# Altium schematic symbol library Freezer_Power.SCHLIB: 78 symbols
Pins are listed as number, name and electrical type; pins without a type are passive.

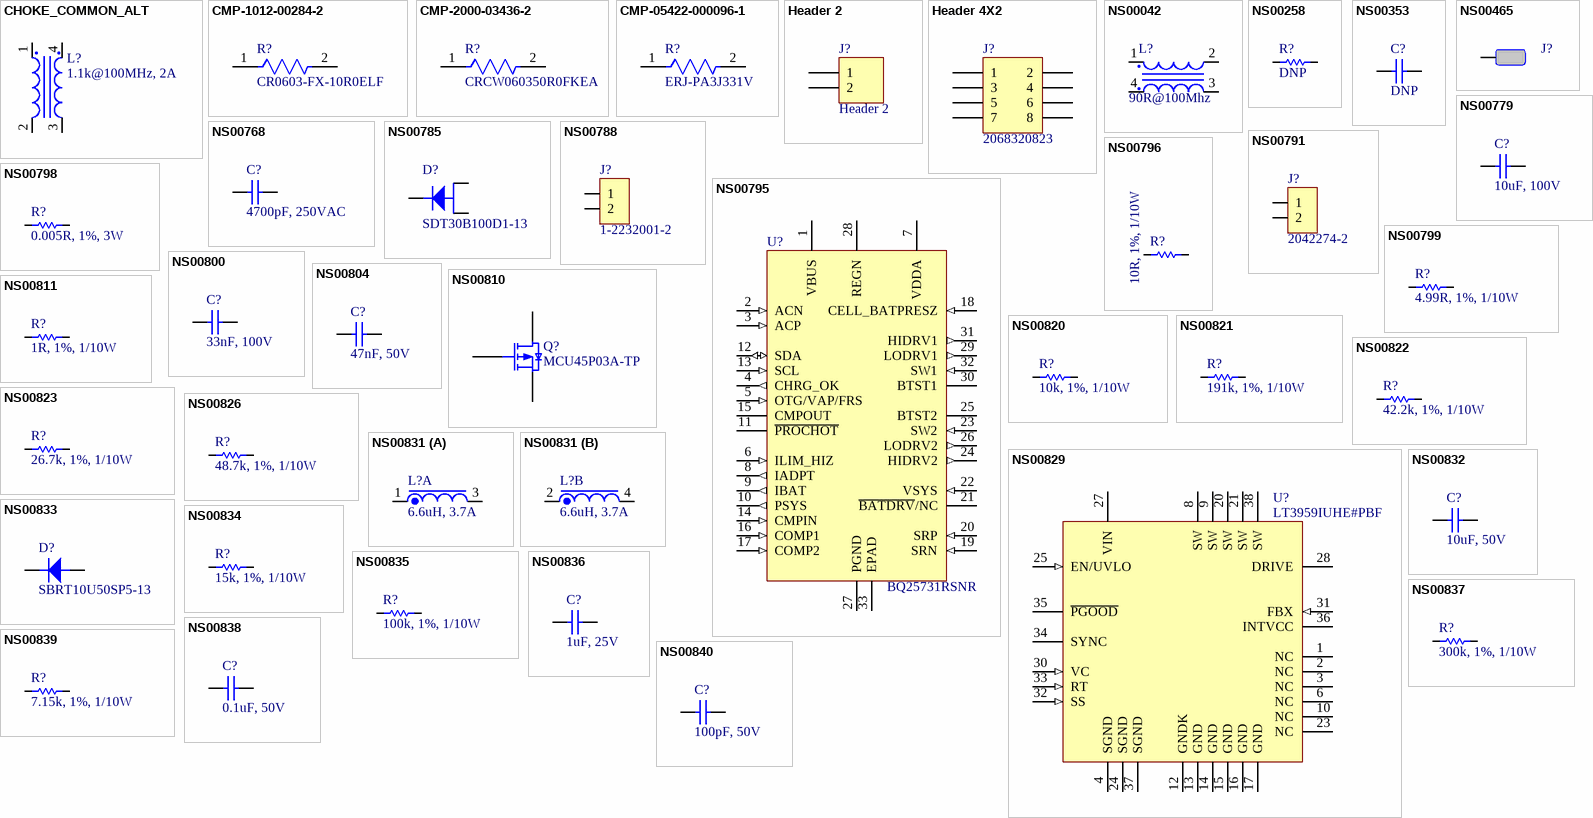
[diagram p0: symbols CHOKE_COMMON_ALT to NS00840]

## CHOKE_COMMON_ALT
designator L?, comment 1.1k@100MHz, 2A
CMC 2A 2LN 1.1K OHM SMD; Part Number: NS00952; Type: Inductor; Value: 1.1k@100MHz, 2A; ComponentLink1Description: Datasheet; ComponentLink1URL: H:\Doc\Murata\EFLC0026.pdf; Supplier 1: Digi-Key; Supplier Part Number 1: 490-12641-1-ND
footprint PLCC440P435X370X235-4L
pins: 1, 2, 3, 4

## CMP-1012-00284-2
designator R?, comment CR0603-FX-10R0ELF
Thick Film Chip Resistors 0603 10Ω 0.1W 1% 100ppm/°C; Manufacturer: Bourns; Manufacturer: Vishay; Manufacturer Part Number: CRCW060310R0FKEA; Manufacturer: Yageo; Manufacturer Part Number: RC0603FR-0710RL; Manufacturer: Panasonic; Manufacturer Part Number: ERJ-3EKF10R0V; Manufacturer: Vishay Dale; Manufacturer Part Number: CRCW060310R0FKEB; Manufacturer Part Number: CRCW060310R0FKTB; Manufacturer Part Number: CRCW060310R0FKEC; Manufacturer Part Number: CRCW0603-10R0FKTA; Max Power Dissipation: 100mW; Resistance: 10R; Voltage Rating: 50V; Depth: 0.8mm; REACH SVHC: No SVHC; Package Quantity: 1; Thickness: 457um; Length: 1.6mm; Tolerance: 1%; Width: 0.8mm; Number of Pins: 2; Height: 0.45mm; Military Standard: Not; Features: Moisture Resistant; Packaging: Tape and Reel; Case/Package: 0603; Power Rating: 100mW; Voltage Rating (DC): 50V; Radiation Hardening: No; Mount: Surface Mount; Min Operating Temperature: -55°C; Composition: Thick Film; Max Operating Temperature: 155°C; Termination: SMD/SMT; Temperature Coefficient: 100ppm/°C; Case Code (Imperial): 0603; Case Code (Metric): 1608; Number of Terminations: 2; Contact Plating: Tin; Manufacturer Part Number: CR0603-FX-10R0ELF
footprint FP-CR0603-IPC_C
footprint FP-CR0603-IPC_A
footprint FP-CR0603-IPC_B
footprint FP-CR0603-MFG
pins: 1, 2

## CMP-2000-03436-2
designator R?, comment CRCW060350R0FKEA
RES Thick Film, 50Ω, 1%, 0.1W, 100ppm/°C, 0603; Manufacturer: Vishay Dale; Voltage Rating (DC): 75V; Resistance: 50R; Power Rating: 100mW; Case/Package: 0603; Packaging: Tape and Reel; Military Standard: Not; REACH SVHC: No SVHC; Width: 0.85mm; Max Operating Temperature: 155°C; Case Code (Metric): 1608; Temperature Coefficient: 100ppm/°C; Lead Free: Lead Free; Height: 0.45mm; Composition: Thick Film; Termination: SMD/SMT; Contact Plating: Tin; Number of Pins: 2; Tolerance: 1%; Depth: 0.85mm; Weight: 7.1E-05oz; Min Operating Temperature: -55°C; Length: 1.55mm; Radiation Hardening: No; Voltage Rating: 75V; Case Code (Imperial): 0603; Package Quantity: 5000; Mount: Surface Mount; Manufacturer Part Number: CRCW060350R0FKEA
footprint FP-CRCW0603-e3-MFG
footprint FP-CRCW0603-e3-IPC_C
footprint FP-CRCW0603-e3-IPC_A
footprint FP-CRCW0603-e3-IPC_B
pins: 1, 2

## CMP-05422-000096-1
designator R?, comment ERJ-PA3J331V
RES SMD 330 OHM 5% 1/4W 0603; Manufacturer: Panasonic; Resistance: 330R; Temperature Coefficient: 200ppm/°C; Max Power Dissipation: 250mW; Case Code (Imperial): 0603; Height: 0.018inch; Case/Package: 0603; Case Code (Metric): 1608; Width: 0.031inch; Length: 0.063inch; Tolerance: 5%; Features: Automotive AEC-Q200; Min Operating Temperature: -55°C; Max Operating Temperature: 155°C; Resistor Type: Thick Film; Packaging: Cut Tape; Number of Terminations: 2; Manufacturer Part Number: ERJ-PA3J331V
footprint FP-ERJPA3-MFG
footprint FP-ERJPA3-IPC_C
footprint FP-ERJPA3-IPC_B
footprint FP-ERJPA3-IPC_A
pins: 1, 2

## Header 2
designator J?
Header, 2-Pin; LatestRevisionDate: 17-Jul-2002; LatestRevisionNote: Re-released for DXP Platform.; Publisher: Altium Limited; Supplier 1: Digi-Key; Supplier Part Number 1: 455-B2B-XH-A-ND
footprint HDR1X2 (Connector; Header; 2 Position)
signal-integrity model Connector
footprint CONN-TH_2P-P2.50_HX25003-2A
pins: 1, 2

## Header 4X2
designator J?, comment 2068320823
Header, 4-Pin, Dual row; LatestRevisionDate: 17-Jul-2002; LatestRevisionNote: Re-released for DXP Platform.; Publisher: Altium Limited; Supplier 1: Digi-Key; Supplier Part Number 1: 900-2068320823-ND
footprint HDR2X4 (Connector; Header; 4x2 Position)
signal-integrity model Connector
footprint CONN_206832-0823
pins: 1, 2, 3, 4, 5, 6, 7, 8

## NS00042
designator L?, comment 90R@100Mhz
INDUCTOR COMMON MODE 90 OHM 25%; Part Number: NS00042; Type: Inductor; Value: 90R@100Mhz; ComponentLink1Description: Datasheet; ComponentLink1URL: H:\Doc\Bourns\SRF2012A.pdf; Supplier 1: Digi-Key; Supplier Part Number 1: SRF2012-900YATR-ND
footprint BOURNS_SRF2012
pins: 1, 2, 3, 4

## NS00258
designator R?, comment DNP
RES SMD 0.0 OHM JUMPER 1/2W 0805; Part Number: NS00258; Value: 0R; Type: R; Supplier 1: Digi-Key; Supplier Part Number 1: 36-5106CT-ND
footprint 0805
pins: 1, 2

## NS00353
designator C?, comment DNP
0.10µF ±10% 50V Ceramic Capacitor X7R 0805 (2012 Metric); Part Number: NS00353; Type: C; Value: 0.1uF, 50V; Alternatives: Generic; Supplier 1: Digi-Key; Supplier Part Number 1: 478-1395-1-ND
footprint 0805
pins: 1, 2

## NS00465
designator J?, comment 1.5x3.5  (value not drawn)  (no BOM)
PAD SOLDER 1.5x3.5MM; Part Number: NS00465; Type: Mechanical; Value: 1.5x3.5
footprint PAD_15_35
pins: 1

## NS00768
designator C?, comment 4700pF, 250VAC
CAP CER 4700PF 250VAC X7R 2220; Part Number: NS00768; Type: C; Alternatives: Generic; Value: 4700pF, 250VAC; Supplier 1: Digi-Key; Supplier Part Number 1: 2873-SCC2220X472K502TGCT-ND
footprint 2220-2.5_CAP
pins: 1, 2

## NS00779
designator C?, comment 10uF, 100V
MLCC 10UF 100V X7S 1210; Part Number: NS00779; Type: C; Alternatives: Generic; Value: 10uF, 100V; Supplier 1: Digi-Key; Supplier Part Number 1: 1276-CL32Y106KCVZNWECT-ND
footprint 1210
pins: 1, 2

## NS00785
designator D?, comment SDT30B100D1-13
DIODE SCHOTTKY 100V 30A TO252; Part Number: NS00785; Type: Diode; Value: SDT30B100D1-13; ComponentLink1Description: Datasheet; ComponentLink1URL: H:\Doc\Diodes\SDT30B100D1.pdf; Supplier 1: Digi-Key; Supplier Part Number 1: SDT30B100D1-13DICT-ND
footprint DPAK
pins: 1 A, 2 K, 3 A

## NS00788
designator J?, comment 1-2232001-2
CONN HEADER VERT 2POS 5MM; Part Number: NS00788; Type: Connector; Value: 1-2232001-2; ComponentLink1Description: Datasheet; ComponentLink1URL: H:\Doc\Tyco\ENG_CD_1971845_B1.pdf; Supplier 1: Digi-Key; Supplier Part Number 1: A117216-ND
footprint CONN_TE_1-2232001-2
pins: 1, 2

## NS00791
designator J?, comment 2042274-2
CONN HEADER 2POS PCB; Part Number: NS00791; Type: Connector; Value: 2042274-2; ComponentLink1Description: Datasheet; ComponentLink1URL: H:\Doc\Tyco\ENG_SS_108-19346_H1.pdf; ComponentLink2Description: Drawing; ComponentLink2URL: H:\Doc\Tyco\ENG_CD_2042274_D.pdf; ComponentLink3Description: Application Specification; ComponentLink3URL: H:\Doc\Tyco\ENG_SS_114-19110_C.pdf; Supplier 1: Digi-Key; Supplier Part Number 1: A105511CT-ND
footprint CONN_TE_2042274-2
pins: 1, 2

## NS00795
designator U?, comment BQ25731RSNR
I2C 1-5 CELL NVDC BUCK-BOOST BAT; Part Number: NS00795; Type: IC; Value: BQ25731RSNR; ComponentLink1Description: Datasheet; ComponentLink1URL: H:\Doc\TI\bq25731.pdf; ComponentLink2Description: Application Notes; ComponentLink2URL: H:\Doc\TI\sluucb9a.pdf; Supplier 1: Digi-Key; Supplier Part Number 1: 296-BQ25731RSNRCT-ND
footprint QFN40P400X400X80_HS-33L
pins: 1 VBUS (power), 2 ACN (in), 3 ACP (in), 4 CHRG_OK (out), 5 OTG/VAP/FRS (in), 6 ILIM_HIZ (in), 7 VDDA (power), 8 IADPT (out), 9 IBAT (out), 10 PSYS (out), 11 ~{PROCHOT} (oc), 12 SDA (io), 13 SCL (in), 14 CMPIN (in), 15 CMPOUT (oc), 16 COMP1 (in), 17 COMP2 (in), 18 CELL_BATPRESZ (in), 19 SRN (in), 20 SRP (in), 21 ~{BATDRV}/NC (oc), 22 VSYS (in), 23 SW2 (in), 24 HIDRV2 (out), 25 BTST2 (power), 26 LODRV2 (out), 27 PGND (power), 28 REGN (power), 29 LODRV1 (out), 30 BTST1 (power), 31 HIDRV1 (out), 32 SW1 (in), 33 EPAD (power)

## NS00796
designator R?, comment 10R, 1%, 1/10W
RES 10 OHM 1% 1/10W 0603; Part Number: NS00796; Alternatives: Generic; Type: R; Value: 10R, 1%, 1/10W; Supplier 1: Digi-Key; Supplier Part Number 1: 1292-WR06X10R0FTLCT-ND
footprint 0603
pins: 1, 2

## NS00798
designator R?, comment 0.005R, 1%, 3W
RES 0.005 OHM 1% 3W 2512; Part Number: NS00798; Alternatives: Generic; Type: R; Value: 0.005R, 1%, 3W; Supplier 1: Digi-Key; Supplier Part Number 1: CRE2512-FZ-R005E-3CT-ND
footprint 2512_RES_1
pins: 1, 2

## NS00799
designator R?, comment 4.99R, 1%, 1/10W
RES 4.99 OHM 1% 1/10W 0603; Part Number: NS00799; Alternatives: Generic; Type: R; Value: 4.99R, 1%, 1/10W; Supplier 1: Digi-Key; Supplier Part Number 1: RMCF0603FT4R99CT-ND
footprint 0603
pins: 1, 2

## NS00800
designator C?, comment 33nF, 100V
CAP CER 0.033UF 100V C0G 0805; Part Number: NS00800; Type: C; Alternatives: Generic; Value: 33nF, 100V; Supplier 1: Digi-Key; Supplier Part Number 1: 445-172691-1-ND
footprint 0805_CAP
pins: 1, 2

## NS00804
designator C?, comment 47nF, 50V
CAP CER 0.047UF 50V X7R 0603; Part Number: NS00804; Type: C; Alternatives: Generic; Value: 47nF, 50V; Supplier 1: Digi-Key; Supplier Part Number 1: 1276-1063-1-ND
footprint 0603
pins: 1, 2

## NS00810
designator Q?, comment MCU45P03A-TP
P-CHANNEL MOSFET, DPAK; Part Number: NS00810; Type: IC; Value: MCU45P03A-TP; ComponentLink1Description: Datasheet; ComponentLink1URL: H:\Doc\MicroCommercial\MCU45P03A(DPAK).pdf; Supplier 1: Digi-Key; Supplier Part Number 1: 353-MCU45P03A-TPCT-ND
footprint DPAK
pins: 1 G, 2 D, 3 S

## NS00811
designator R?, comment 1R, 1%, 1/10W
RES 1 OHM 1% 1/10W 0603; Part Number: NS00811; Alternatives: Generic; Type: R; Value: 1R, 1%, 1/10W; Supplier 1: Digi-Key; Supplier Part Number 1: RMCF0603FT1R00CT-ND
footprint 0603
pins: 1, 2

## NS00820
designator R?, comment 10k, 1%, 1/10W
RES 10K OHM 1% 1/10W 0603; Part Number: NS00820; Alternatives: Generic; Type: R; Value: 10k, 1%, 1/10W; Supplier 1: Digi-Key; Supplier Part Number 1: RMCF0603FT10K0CT-ND
footprint 0603
pins: 1, 2

## NS00821
designator R?, comment 191k, 1%, 1/10W
RES 191K OHM 1% 1/10W 0603; Part Number: NS00821; Alternatives: Generic; Type: R; Value: 191k, 1%, 1/10W; Supplier 1: Digi-Key; Supplier Part Number 1: RMCF0603FT191KCT-ND
footprint 0603
pins: 1, 2

## NS00822
designator R?, comment 42.2k, 1%, 1/10W
RES 42.2K OHM 1% 1/10W 0603; Part Number: NS00822; Alternatives: Generic; Type: R; Value: 42.2k, 1%, 1/10W; Supplier 1: Digi-Key; Supplier Part Number 1: RMCF0603FT42K2
footprint 0603
pins: 1, 2

## NS00823
designator R?, comment 26.7k, 1%, 1/10W
RES 26.7K OHM 1% 1/10W 0603; Part Number: NS00823; Alternatives: Generic; Type: R; Value: 26.7k, 1%, 1/10W; Supplier 1: Digi-Key; Supplier Part Number 1: RMCF0603FT26K7
footprint 0603
pins: 1, 2

## NS00826
designator R?, comment 48.7k, 1%, 1/10W
RES 48.7K OHM 1% 1/10W 0603; Part Number: NS00826; Alternatives: Generic; Type: R; Value: 48.7k, 1%, 1/10W; Supplier 1: Digi-Key; Supplier Part Number 1: RMCF0603FT48K7CT-ND
footprint 0603
pins: 1, 2

## NS00829
designator U?, comment LT3959IUHE#PBF
IC REG MULTI CONFG ADJ 6A 36QFN; Part Number: NS00829; Type: IC; Value: LT3959IUHE#PBF; ComponentLink1Description: Datasheet; ComponentLink1URL: H:\Doc\Linear_Technologies\3959fa.pdf; Supplier 1: Digi-Key; Supplier Part Number 1: 505-LT3959IUHE#PBF-ND
footprint QFN50P500X600X80_LT_UHEMA
pins: 1 NC, 2 NC, 3 NC, 4 SGND (power), 6 NC, 8 SW (oc), 9 SW (oc), 10 NC, 12 GNDK (power), 13 GND (power), 14 GND (power), 15 GND (power), 16 GND (power), 17 GND (power), 20 SW (oc), 21 SW (oc), 23 NC, 24 SGND (power), 25 EN/UVLO (in), 27 VIN (power), 28 DRIVE (power), 30 VC (in), 31 FBX (in), 32 SS (in), 33 RT (in), 34 SYNC (power), 35 ~{PGOOD} (oc), 36 INTVCC (power), 37 SGND (power), 38 SW (oc)

## NS00831
designator L?, comment 6.6uH, 3.7A
INDUCT ARRAY 2 COIL 6.6UH SMD; Part Number: NS00831; Type: Inductor; Value: 6.6uH, 3.7A; ComponentLink1Description: Datasheet; ComponentLink1URL: H:\Doc\pulse\SPM2007_28.pdf; Supplier 1: Digi-Key; Supplier Part Number 1: 553-3631-ND
footprint PLCC300P1250X1250X600-4N
part A pins: 1, 3 2
part B pins: 2 3, 4

## NS00832
designator C?, comment 10uF, 50V
CAP CER 10UF 50V X7R 1206; Part Number: NS00832; Type: C; Alternatives: Generic; Value: 10uF, 50V; Supplier 1: Digi-Key; Supplier Part Number 1: 1276-6767-1-ND
footprint 1206
pins: 1, 2

## NS00833
designator D?, comment SBRT10U50SP5-13
DIODE SBR 50V 10A POWERDI5; Part Number: NS00833; Type: Diode; Value: SBRT10U50SP5-13; ComponentLink1Description: Datasheet; ComponentLink1URL: H:\Doc\Diodes\SBRT10U50SP5.pdf; Supplier 1: Digi-Key; Supplier Part Number 1: SBR10E45P5-7DICT-ND
footprint DPAK184P650X115-3L
pins: 1 A, 2 K

## NS00834
designator R?, comment 15k, 1%, 1/10W
RES 15K OHM 1% 1/10W 0603; Part Number: NS00834; Alternatives: Generic; Type: R; Value: 15k, 1%, 1/10W; Supplier 1: Digi-Key; Supplier Part Number 1: 1292-WR06X1502FTLCT-ND
footprint 0603
pins: 1, 2

## NS00835
designator R?, comment 100k, 1%, 1/10W
RES 100K OHM 1% 1/10W 0603; Part Number: NS00835; Alternatives: Generic; Type: R; Value: 100k, 1%, 1/10W; Supplier 1: Digi-Key; Supplier Part Number 1: RMCF0603FT100KCT-ND
footprint 0603
pins: 1, 2

## NS00836
designator C?, comment 1uF, 25V
CAP CER 1UF 25V X7R 0603; Part Number: NS00836; Type: C; Alternatives: Generic; Value: 1uF, 25V; Supplier 1: Digi-Key; Supplier Part Number 1: 1276-1184-1-ND
footprint 0603
pins: 1, 2

## NS00837
designator R?, comment 300k, 1%, 1/10W
RES 300K OHM 1% 1/10W 0603; Part Number: NS00837; Alternatives: Generic; Type: R; Value: 300k, 1%, 1/10W; Supplier 1: Digi-Key; Supplier Part Number 1: RMCF0603FT300KCT-ND
footprint 0603
pins: 1, 2

## NS00838
designator C?, comment 0.1uF, 50V
CAP CER 0.1UF 50V X7R 0603; Part Number: NS00838; Type: C; Alternatives: Generic; Value: 0.1uF, 50V; Supplier 1: Digi-Key; Supplier Part Number 1: 1276-1935-1-ND
footprint 0603
pins: 1, 2

## NS00839
designator R?, comment 7.15k, 1%, 1/10W
RES 7.15K OHM 1% 1/10W 0603; Part Number: NS00839; Alternatives: Generic; Type: R; Value: 7.15k, 1%, 1/10W; Supplier 1: Digi-Key; Supplier Part Number 1: RMCF0603FT7K15CT-ND
footprint 0603
pins: 1, 2

## NS00840
designator C?, comment 100pF, 50V
CAP CER 100PF 50V C0G/NP0 0603; Part Number: NS00840; Type: C; Alternatives: Generic; Value: 100pF, 50V; Supplier 1: Digi-Key; Supplier Part Number 1: 478-1175-1-ND
footprint 0603
pins: 1, 2

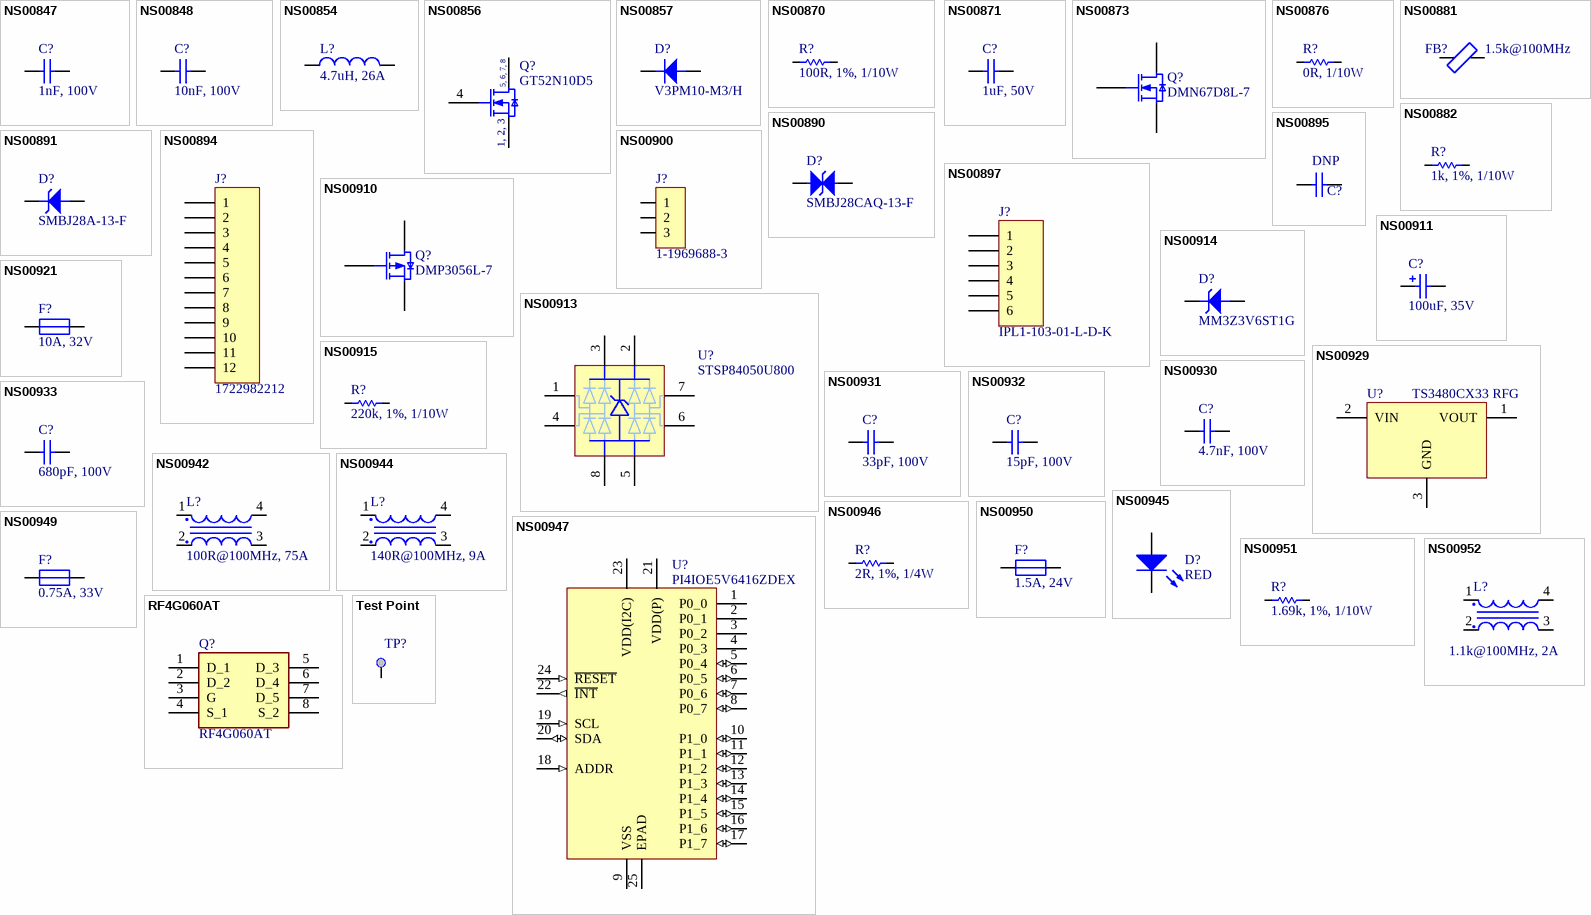
[diagram p1: symbols NS00847 to Test Point]

## NS00847
designator C?, comment 1nF, 100V
CAP CER 1000PF 100V C0G/NP0 0603; Part Number: NS00847; Type: C; Alternatives: Generic; Value: 1nF, 100V; Supplier 1: Digi-Key; Supplier Part Number 1: 732-12187-1-ND
footprint 0603
pins: 1, 2

## NS00848
designator C?, comment 10nF, 100V
CAP CER 10000PF 100V C0G 0603; Part Number: NS00848; Type: C; Alternatives: Generic; Value: 10nF, 100V; Supplier 1: Digi-Key; Supplier Part Number 1: 445-172665-1-ND
footprint 0603
pins: 1, 2

## NS00854
designator L?, comment 4.7uH, 26A
FIXED IND 4.7UH 26A 5.5 MOHM SMD; Part Number: NS00854; Type: Inductor; Value: 4.7uH, 26A; ComponentLink1Description: Datasheet; ComponentLink1URL: H:\Doc\Bourns\srp1770c.pdf; Supplier 1: Digi-Key; Supplier Part Number 1: SRP1770C-4R7MCT-ND
footprint INDM178169X70N
pins: 1, 2

## NS00856
designator Q?, comment GT52N10D5
N-CH MOSFET 100V 71A 8-PowerTDFN; Part Number: NS00856; Type: IC; Published: 8-Jun-2000; LatestRevisionDate: 17-Jul-2002; LatestRevisionNote: Re-released for DXP Platform.; PackageVersion: 1995/1996; PackageReference: E3; Publisher: Altium Limited; Value: GT52N10D5; ComponentLink1Description: Datasheet; ComponentLink1URL: H:\Doc\Goford\GOFORD GT52N10D5.pdf; Supplier 1: Digi-Key; Supplier Part Number 1: 3141-GT52N10D5CT-ND
footprint 8-PowerSMD
pins: 1 S1, 2 S2, 3 S3, 4 G, 5 D1, 6 D2, 7 D3, 8 D4
text: 5, 6, 7, 8; 1, 2, 3

## NS00857
designator D?, comment V3PM10-M3/H
SCHOTTKY RECTIFIER 3A 100V SMP; Part Number: NS00857; Type: Diode; Value: V3PM10-M3/H; ComponentLink1Description: Datasheet; ComponentLink1URL: H:\Doc\Vishay\v3pm10.pdf; Supplier 1: Digi-Key; Supplier Part Number 1: 112-V3PM10-M3/HCT-ND
footprint SMP
pins: 1 A, 2 K

## NS00870
designator R?, comment 100R, 1%, 1/10W
RES 100 OHM 1% 1/10W 0603; Part Number: NS00870; Alternatives: Generic; Type: R; Value: 100R, 1%, 1/10W; Supplier 1: Digi-Key; Supplier Part Number 1: RMCF0603FT100RCT-ND
footprint 0603
pins: 1, 2

## NS00871
designator C?, comment 1uF, 50V
CAP CER 1UF 50V X7R 0805; Part Number: NS00871; Type: C; Alternatives: Generic; Value: 1uF, 50V; Supplier 1: Digi-Key; Supplier Part Number 1: 1276-6470-1-ND
footprint 0805
pins: 1, 2

## NS00873
designator Q?, comment DMN67D8L-7
MOSFET N-CH 60V 210MA SOT23; Part Number: NS00873; Type: IC; Published: 8-Jun-2000; LatestRevisionDate: 17-Jul-2002; LatestRevisionNote: Re-released for DXP Platform.; PackageVersion: 1995/1996; PackageReference: E3; Publisher: Altium Limited; Value: DMN67D8L-7; ComponentLink1Description: Datasheet; ComponentLink1URL: H:\Doc\Diodes\DMN67D8L.pdf; Supplier 1: Digi-Key; Supplier Part Number 1: DMN67D8L-7DICT-ND
footprint SOT23-3
pins: 1 G, 2 S, 3 D

## NS00876
designator R?, comment 0R, 1/10W
RES 0 OHM JUMPER 1/10W 0603; Part Number: NS00876; Alternatives: Generic; Type: R; Value: 0R, 1/10W; Supplier 1: Digi-Key; Supplier Part Number 1: RMCF0603ZT0R00CT-ND
footprint 0603
pins: 1, 2

## NS00881
designator FB?, comment 1.5k@100MHz
WE-CBA SMT EMI SUPPRESSION FERRITE; Part Number: NS00881; Type: Inductor; Value: 1.5k@100MHz; ComponentLink1Description: Datasheet; ComponentLink1URL: H:\Doc\Wurth\782853162.pdf; Supplier 1: Digi-Key; Supplier Part Number 1: 732-782853162CT-ND
footprint 0805
pins: 1, 2

## NS00882
designator R?, comment 1k, 1%, 1/10W
RES 1K OHM 1% 1/10W 0603; Part Number: NS00882; Alternatives: Generic; Type: R; Value: 1k, 1%, 1/10W; Supplier 1: Digi-Key; Supplier Part Number 1: RMCF0603FT1K00CT-ND
footprint 0603
pins: 1, 2

## NS00890
designator D?, comment SMBJ28CAQ-13-F
TVS DIODE 28VWM 45.4VC SMB; Part Number: NS00890; Type: Diode; Value: SMBJ28CAQ-13-F; ComponentLink1Description: Datasheet; ComponentLink1URL: H:\Doc\Diodes\SMBJ6.5CAQ-SMBJ100CAQ.pdf; Supplier 1: Digi-Key; Supplier Part Number 1: SMBJ28CAQ-13-FDICT-ND
footprint SMB
pins: 1 A, 2 K

## NS00891
designator D?, comment SMBJ28A-13-F
TVS DIODE 28VWM 45.4VC SMB; Part Number: NS00891; Type: Diode; Value: SMBJ28A-13-F; ComponentLink1Description: Datasheet; ComponentLink1URL: H:\Doc\Diodes\ds19002-2.pdf; Supplier 1: Digi-Key; Supplier Part Number 1: SMBJ28A-FDICT-ND
footprint SMB
pins: 1 A, 2 K

## NS00894
designator J?, comment 1722982212
CONN HEADER VERT 12POS 3.5MM; Part Number: NS00894; Type: Connector; Value: 1722982212; ComponentLink1Description: Datasheet; ComponentLink1URL: H:\Doc\Molex\1722982212_PCB_HEADERS.pdf; ComponentLink2Description: Application Specification; ComponentLink2URL: H:\Doc\Molex\AS-172323-0001-001.pdf; ComponentLink3Description: Drawing; ComponentLink3URL: H:\Doc\Molex\1722982212_sd.pdf; Supplier 1: Digi-Key; Supplier Part Number 1: WM11767-ND
footprint CONN_MOLEX_1722982212
pins: 1, 2, 3, 4, 5, 6, 7, 8, 9, 10, 11, 12

## NS00895
designator C?, comment DNP
CAP CER 0.068UF 50V X7R 0603; Part Number: NS00895; Type: C; Value: 68nF, 50V; Alternatives: Generic; Supplier 1: Digi-Key; Supplier Part Number 1: 1276-6541-1-ND
footprint 0603
pins: 1, 2

## NS00897
designator J?, comment IPL1-103-01-L-D-K
CONN HEADER VERT 6POS 2.54MM; Part Number: NS00897; Type: Connector; Value: IPL1-103-01-L-D-K; ComponentLink1Description: Datasheet; ComponentLink1URL: H:\Doc\Samtec\100_mini_mate.pdf; ComponentLink2Description: Dimensions; ComponentLink2URL: H:\Doc\Samtec\ipl1.pdf; Supplier 1: Digi-Key; Supplier Part Number 1: SAM9594-ND
footprint CONN_SAMTEC_IPL1-103-XX-X-D
pins: 1, 2, 3, 4, 5, 6

## NS00900
designator J?, comment 1-1969688-3
CONN HEADER VERT 3POS 6MM; Part Number: NS00900; Type: Connector; Value: 1-1969688-3; ComponentLink1Description: Product Spec; ComponentLink1URL: H:\Doc\Tyco\ENG_SS_108-32090_E.pdf; ComponentLink2Description: Application Spec; ComponentLink2URL: H:\Doc\Tyco\ENG_SS_114-32136_D.pdf; ComponentLink3Description: Drawing; ComponentLink3URL: H:\Doc\Tyco\ENG_CD_1969688_C.pdf; Supplier 1: Digi-Key; Supplier Part Number 1: A120938-ND
footprint CONN_TE_1-1969688-3
pins: 1, 2, 3

## NS00910
designator Q?, comment DMP3056L-7
MOSFET P-CH 30V 4.3A SOT23; Part Number: NS00910; Type: IC; Value: DMP3056L-7; ComponentLink1Description: Datasheet; ComponentLink1URL: H:\Doc\Diodes\DMP3056L.pdf; Supplier 1: Digi-Key; Supplier Part Number 1: DMP3056L-7DICT-ND
footprint SOT23-3
pins: 1 G, 2 S, 3 D

## NS00911
designator C?, comment 100uF, 35V
CAP ALUM 100UF 20% 35V SMD; Part Number: NS00911; Type: C; Alternatives: Generic; Value: 100uF, 35V; Supplier 1: Digi-Key; Supplier Part Number 1: PCE5051CT-ND
footprint CAPAE7866X80L
pins: 1, 2
1 alternate drawing of the same symbol

## NS00913
designator U?, comment STSP84050U800
TVS DIODE 5VWM 20VC 8-SOP; Part Number: NS00913; Type: IC; Value: STSP84050U800; ComponentLink1Description: Datasheet; ComponentLink1URL: H:\Doc\Eaton\eaton-stsp84xxxxxx-tvs-diode-array-esd-suppressor-data-sheet.pdf; Supplier 1: Digi-Key; Supplier Part Number 1: 283-STSP84050U800CT-ND
footprint SOIC127P600X163-8N
pins: 1, 2, 3, 4, 5, 6, 7, 8

## NS00914
designator D?, comment MM3Z3V6ST1G
DIODE ZENER 3V 300MW SOD323; Part Number: NS00914; Type: Diode; Value: MM3Z3V6ST1G; ComponentLink1Description: Datasheet; ComponentLink1URL: H:\Doc\ONsemi\MM3Z2V4ST1-D.PDF; Supplier 1: Digi-Key; Supplier Part Number 1: MM3Z3V0ST1GOSCT-ND
footprint SOD323
pins: 1 A, 2 K

## NS00915
designator R?, comment 220k, 1%, 1/10W
RES SMD 220K OHM 1% 1/10W 0603; Part Number: NS00915; Alternatives: Generic; Type: R; Value: 220k, 1%, 1/10W; Supplier 1: Digi-Key; Supplier Part Number 1: YAG3579CT-ND
footprint 0603
pins: 1, 2

## NS00921
designator F?, comment 10A, 32V
PTC RESET FUSE 32V 10A RADIAL; Part Number: NS00921; Alternatives: Generic; Type: Fuse; Value: 10A, 32V; Supplier 1: Digi-Key; Supplier Part Number 1: 507-0ZRS1000FF1A-ND
footprint RAD_TH_1.3DIAx10.2Px27.9H
pins: 1 A, 2 K

## NS00929
designator U?, comment TS3480CX33 RFG
IC REG LINEAR 3.3V 100MA SOT23; Part Number: NS00929; Type: IC; Value: TS3480CX33 RFG; ComponentLink1Description: Datasheet; ComponentLink1URL: H:\Doc\TaiwanSemi\TS3480.pdf; Supplier 1: Digi-Key; Supplier Part Number 1: TS3480CX33RFGCT-ND
footprint SOT23-3
pins: 1 VOUT (power), 2 VIN (power), 3 GND (power)

## NS00930
designator C?, comment 4.7nF, 100V
CAP CER 4700PF 100V C0G 0603; Part Number: NS00930; Type: C; Alternatives: Generic; Value: 4.7nF, 100V; Supplier 1: Digi-Key; Supplier Part Number 1: 445-172684-1-ND
footprint 0603
pins: 1, 2

## NS00931
designator C?, comment 33pF, 100V
CAP CER 33PF 100V C0G/NP0 0603; Part Number: NS00931; Type: C; Alternatives: Generic; Value: 33pF, 100V; Supplier 1: Digi-Key; Supplier Part Number 1: 399-15919-1-ND
footprint 0603
pins: 1, 2

## NS00932
designator C?, comment 15pF, 100V
CAP CER 15PF 100V C0G/NP0 0603; Part Number: NS00932; Type: C; Alternatives: Generic; Value: 15pF, 100V; Supplier 1: Digi-Key; Supplier Part Number 1: 1276-CL10C150JC81PNCCT-ND
footprint 0603
pins: 1, 2

## NS00933
designator C?, comment 680pF, 100V
CAP CER 680PF 100V C0G 0603; Part Number: NS00933; Type: C; Alternatives: Generic; Value: 680pF, 100V; Supplier 1: Digi-Key; Supplier Part Number 1: 445-5734-1-ND
footprint 0603
pins: 1, 2

## NS00942
designator L?, comment 100R@100MHz, 75A
CMC 75A 2LN 100 OHM TH; Part Number: NS00942; Type: Inductor; Value: 100R@100MHz, 75A; ComponentLink1Description: Datasheet; ComponentLink1URL: H:\Doc\Laird\cm5441z101b-10-datasheet.pdf; Supplier 1: Digi-Key; Supplier Part Number 1: 240-2489-ND
footprint CHOKE_TH_13.72x10.41x10.52_6.35x5.28_3.07x0.97
footprint FIL_CM5441Z101B-10
pins: 1, 2, 3, 4

## NS00944
designator L?, comment 140R@100MHz, 9A
CMC 1.8UH 9A 2LN 140 OHM SMD553-4125-1-ND; Part Number: NS00944; Type: Inductor; Value: 140R@100MHz, 9A; ComponentLink1Description: Datasheet; ComponentLink1URL: H:\Doc\Eaton\datasheet_p850_1608182804.pdf; Supplier 1: Digi-Key; Supplier Part Number 1: 553-4125-1-ND
footprint CHOKE_SMD_7.0X6.0X3.8
pins: 1, 2, 3, 4

## NS00945
designator D?, comment RED
LED RED CLEAR 1608 SMD; Part Number: NS00945; Type: IC; Value: RED; ComponentLink1Description: Datasheet; ComponentLink1URL: H:\Doc\Harvatek\B1911USD-20D000114U1930.pdf; Supplier 1: Digi-Key; Supplier Part Number 1: 3147-B1911USD-20D000114U1930CT-ND
footprint 0603_DIODE_K1A2
pins: 1 A, 2 K

## NS00946
designator R?, comment 2R, 1%, 1/4W
RES 2 OHM 1% 1/4W 1206; Part Number: NS00946; Alternatives: Generic; Type: R; Value: 2R, 1%, 1/4W; Supplier 1: Digi-Key; Supplier Part Number 1: 738-RMCF1206FT2R00CT-ND
footprint 1206
pins: 1, 2

## NS00947
designator U?, comment PI4IOE5V6416ZDEX
IC XPNDR 400KHZ I2C 24TQFN; Part Number: NS00947; Type: IC; Value: PI4IOE5V6416ZDEX; ComponentLink1Description: Datasheet; ComponentLink1URL: H:\Doc\Diodes\PI4IOE5V6416.pdf; Supplier 1: Digi-Key; Supplier Part Number 1: PI4IOE5V6416ZDEXDICT-ND
footprint QFN50P400X400X90_HS-25L
pins: 1 P0_0, 2 P0_1, 3 P0_2, 4 P0_3, 5 P0_4 (io), 6 P0_5 (io), 7 P0_6 (io), 8 P0_7 (io), 9 VSS (power), 10 P1_0 (io), 11 P1_1 (io), 12 P1_2 (io), 13 P1_3 (io), 14 P1_4 (io), 15 P1_5 (io), 16 P1_6 (io), 17 P1_7 (io), 18 ADDR (in), 19 SCL (in), 20 SDA (io), 21 VDD(P) (power), 22 ~{INT} (out), 23 VDD(I2C) (power), 24 ~{RESET} (in), 25 EPAD (power)

## NS00949
designator F?, comment 0.75A, 33V
PTC RESET FUSE 33V 750MA 1812; Part Number: NS00949; Alternatives: Generic; Type: Fuse; Value: 0.75A, 33V; Supplier 1: Digi-Key; Supplier Part Number 1: 283-3153-1-ND
footprint 1812_CAP
pins: 1 A, 2 K

## NS00950
designator F?, comment 1.5A, 24V
PTC RESET FUSE 24V 1.5A 1812; Part Number: NS00950; Alternatives: Generic; Type: Fuse; Value: 1.5A, 24V; Supplier 1: Digi-Key; Supplier Part Number 1: 507-1773-1-ND
footprint 1812_CAP
pins: 1 A, 2 K

## NS00951
designator R?, comment 1.69k, 1%, 1/10W
RES 1.69K OHM 1% 1/10W 0603; Part Number: NS00951; Alternatives: Generic; Type: R; Value: 1.69k, 1%, 1/10W; Supplier 1: Digi-Key; Supplier Part Number 1: 311-1.69KHRCT-ND
footprint 0603
pins: 1, 2

## NS00952
designator L?, comment 1.1k@100MHz, 2A
CMC 2A 2LN 1.1K OHM SMD; Part Number: NS00952; Type: Inductor; Value: 1.1k@100MHz, 2A; ComponentLink1Description: Datasheet; ComponentLink1URL: H:\Doc\Murata\EFLC0026.pdf; Supplier 1: Digi-Key; Supplier Part Number 1: 490-12641-1-ND
footprint PLCC440P435X370X235-4L
pins: 1, 2, 3, 4

## RF4G060AT
designator Q?
MOSFET (P-Channel); Manufacturer_Name: ROHM Semiconductor; Datasheet Link: https://fscdn.rohm.com/en/products/databook/datasheet/discrete/transistor/mosfet/rf4g060attcr-e.pdf; Height: 0.6mm; Manufacturer_Part_Number: RF4G060AT
footprint RF4C100BC
pins: 1 D_1, 2 D_2, 3 G, 4 S_1, 5 D_3, 6 D_4, 7 D_5, 8 S_2

## Test Point
designator TP?  (value not drawn)  (no BOM)
Test Point 0.3mm; PartType: Mechanical; ComponentLink1Description: Datasheet
footprint TEST POINT 20 Mil (MFG_PN:)
footprint TEST POINT 30 Mil (MFG_PN:)
footprint TEST POINT 40 Mil (MFG_PN:)
footprint TEST POINT 60 Mil (MFG_PN:)
footprint TEST POINT 80 Mil (MFG_PN:)
footprint TEST POINT THT 0.9 mm (MFG_PN:)
footprint TEST POINT 40 Mil (MFG_PN:)
pins: 1